# Altium footprint library DANCE_LIB_REV2.PcbLib: 146 footprints (part 2 of 10)
Each footprint in its own frame and in the unit in brackets; x right, y up, seen from the top. Pads: shape width x height; smd on the part's side, far side on the other; paste and mask are expansions set on the pad; w line width, h text height; cw(c..) or ccw(c..) is an arc to the next point about the centre after c.
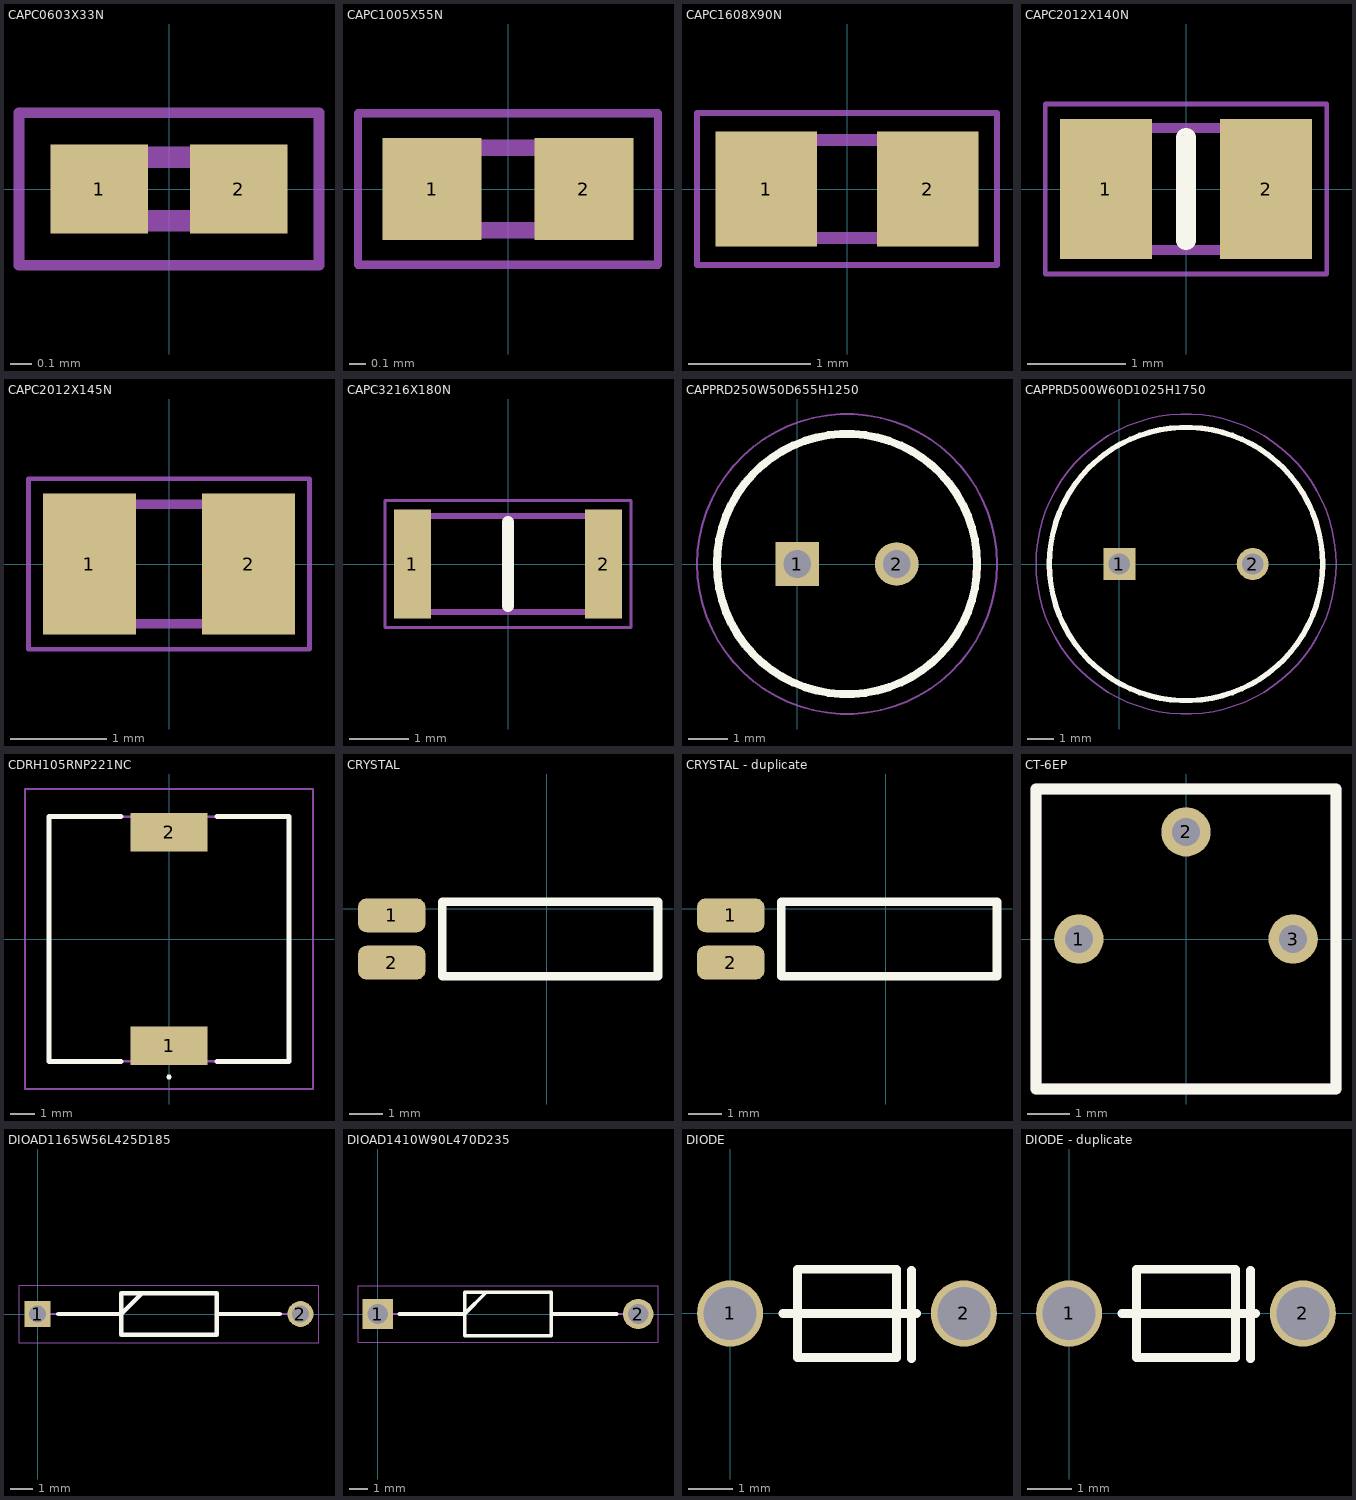
[diagram p1: the footprints below, top view; thin cyan lines are the x and y axes]

## CAPC0603X33N [mm]
pads (2):
  rect 0.46x0.42 smd: 1(-0.33,0) 2(0.33,0)
Mechanical 13:
  lines w0.1: -0.3,-0.15 -0.3,0.15 0.3,0.15 0.3,-0.15 -0.3,-0.15
Mechanical 15:
  lines w0.05: -0.71,-0.36 -0.71,0.36 0.71,0.36 0.71,-0.36 -0.71,-0.36
3D body "GRM033R71E222KA12D.stp": height 0.33, standoff 0, extent -0.3,-0.15 0.3,0.15

## CAPC1005X55N [mm]
pads (2):
  rect 0.6x0.62 smd: 1(-0.46,0) 2(0.46,0)
Mechanical 13:
  lines w0.1: -0.5,-0.25 -0.5,0.25 0.5,0.25 0.5,-0.25 -0.5,-0.25
Mechanical 15:
  lines w0.05: -0.91,-0.46 -0.91,0.46 0.91,0.46 0.91,-0.46 -0.91,-0.46
3D body "CL05B104KA5NNNC.stp": height 0.55, standoff 0, extent -0.5,-0.25 0.5,0.25

## CAPC1608X90N [mm]
pads (2):
  rect 0.83x0.94 smd: 1(-0.66,0) 2(0.66,0)
Mechanical 13:
  lines w0.1: -0.8,-0.4 0.8,-0.4 0.8,0.4 -0.8,0.4 -0.8,-0.4
Mechanical 15:
  lines w0.05: -1.225,-0.62 1.225,-0.62 1.225,0.62 -1.225,0.62 -1.225,-0.62
3D body "CC0603KRX7R7BB104.stp": height 0.8, standoff 0, extent -0.803,-0.399 0.797,0.401

## CAPC2012X140N [mm]
pads (2):
  rect 0.94x1.43 smd: 1(-0.82,0) 2(0.82,0)
Top Overlay:
  lines w0.2: 0,-0.525 0,0.525
Mechanical 13:
  lines w0.1: -1,-0.625 -1,0.625 1,0.625 1,-0.625 -1,-0.625
Mechanical 15:
  lines w0.05: -1.44,-0.87 -1.44,0.87 1.44,0.87 1.44,-0.87 -1.44,-0.87
3D body "CL21A106KOQNNNE.stp": height 1.4, standoff 0, extent -1,-0.625 1,0.625

## CAPC2012X145N [mm]
pads (2):
  rect 0.97x1.47 smd: 1(-0.83,0) 2(0.83,0)
Mechanical 13:
  lines w0.1: -1,-0.625 -1,0.625 1,0.625 1,-0.625 -1,-0.625
Mechanical 15:
  lines w0.05: -1.465,-0.89 -1.465,0.89 1.465,0.89 1.465,-0.89 -1.465,-0.89
3D body "GRM21BR61E106KA73L.stp": height 1.45, standoff 0, extent -1,-0.625 1,0.625

## CAPC3216X180N [mm]
pads (2):
  rect 0.62x1.82 smd: 1(-1.6,0) 2(1.6,0)
Top Overlay:
  lines w0.2: 0,-0.7 0,0.7
Mechanical 13:
  lines w0.1: -1.6,-0.8 -1.6,0.8 1.6,0.8 1.6,-0.8 -1.6,-0.8
Mechanical 15:
  lines w0.05: -2.06,-1.06 -2.06,1.06 2.06,1.06 2.06,-1.06 -2.06,-1.06
3D body "C3216X5R1E225K160AA.stp": height 1.6, standoff 0, extent -1.65,-0.8 1.55,0.8

## CAPPRD250W50D655H1250 [mm]
pads (2):
  rect 1.1x1.1 hole 0.7: 1(0,0)
  round 1.1 hole 0.7: 2(2.5,0)
Top Overlay:
  circle w0.2: c1.25,0 r3.275
Mechanical 13:
  circle w0.1: c1.25,0 r3.275
Mechanical 15:
  circle w0.05: c1.25,0 r3.775
3D body "16ZLH220MEFC6.3X11.stp": height 0, standoff -30, extent -3.16,-3.149 3.15,3.149

## CAPPRD500W60D1025H1750 [mm]
pads (2):
  rect 1.2x1.2 hole 0.8: 1(0,0)
  round 1.2 hole 0.8: 2(5,0)
Top Overlay:
  circle w0.2: c2.5,0 r5.125
Mechanical 13:
  circle w0.1: c2.5,0 r5.125
Mechanical 15:
  circle w0.05: c2.5,0 r5.625
3D body "16YXJ1000MT810X16.stp": height 17.5, standoff -10, extent -2.75,-5.247 7.75,5.247

## CDRH105RNP221NC [mm]
pads (2):
  rect 3.2x1.6 smd: 1(0,-4.45) 2(0,4.45)
Top Overlay:
  lines w0.1: 0,-5.8 cw(c0,-5.75) 0,-5.7 cw(c0,-5.75) 0,-5.8
  lines w0.2: -2,-5.1 -5,-5.1 -5,5.1 -2,5.1 ; 2,-5.1 5,-5.1 5,5.1 2,5.1
Mechanical 13:
  lines w0.1: -5,-5.1 -5,5.1 5,5.1 5,-5.1 -5,-5.1
Mechanical 15:
  lines w0.1: -6,-6.25 -6,6.25 6,6.25 6,-6.25 -6,-6.25
3D body "CDRH105RNP-221NC.stp": height 5.2, standoff 0, extent -5,-5.1 5,5.1

## CRYSTAL [mm]
pads (2):
  rrect50% 2x1 smd: 1(-4.6,-0.2) 2(-4.6,-1.6)
Top Overlay:
  lines w0.254: -3.1,-2 -3.1,0.2 3.3,0.2 3.3,-2 -3.1,-2

## CRYSTAL - duplicate [mm]
pads (2):
  rrect50% 2x1 smd: 1(-4.6,-0.2) 2(-4.6,-1.6)
Top Overlay:
  lines w0.254: -3.1,-2 -3.1,0.2 3.3,0.2 3.3,-2 -3.1,-2

## CT-6EP [mm]
pads (3):
  round 1.15 hole 0.65: 1(-2.5,0) 2(0,2.5) 3(2.5,0)
Top Overlay:
  lines w0.254: -3.5,-3.5 -3.5,3.5 3.5,3.5 3.5,-3.5 -3.5,-3.5
Mechanical 13:
  lines w0.254: -3.5,-3.5 3.5,-3.5 3.5,3.5 -3.5,3.5 -3.5,-3.5
3D body "ct6ep201-nd.stp": height 11.36, standoff -1.44, extent -3.5,-3.5 3.5,3.5

## DIOAD1165W56L425D185 [mm]
pads (2):
  rect 1.15x1.15 hole 0.75: 1(0,0)
  round 1.15 hole 0.75: 2(11.7,0)
Top Overlay:
  lines w0.2: 0.925,0 3.725,0 4.65,0.925 ; 7.975,0 10.775,0 ; 3.725,-0.925 7.975,-0.925 7.975,0.925 3.725,0.925 3.725,-0.925
Mechanical 13:
  lines w0.1: 0,0 3.725,0 4.65,0.925 ; 7.975,0 11.7,0 ; 3.725,-0.925 7.975,-0.925 7.975,0.925 3.725,0.925 3.725,-0.925
Mechanical 15:
  lines w0.05: -0.825,-1.275 12.525,-1.275 12.525,1.275 -0.825,1.275 -0.825,-1.275
3D body "1N4148,133.stp": height 32.04, standoff -28.96, extent 0.963,1.687 2.663,3.388

## DIOAD1410W90L470D235 [mm]
pads (2):
  rect 1.65x1.65 hole 1.1: 1(0,0)
  round 1.65 hole 1.1: 2(14.1,0)
Top Overlay:
  lines w0.2: 1.175,0 4.7,0 5.875,1.175 ; 9.4,0 12.925,0 ; 4.7,-1.175 9.4,-1.175 9.4,1.175 4.7,1.175 4.7,-1.175
Mechanical 13:
  lines w0.1: 0,0 4.7,0 5.875,1.175 ; 9.4,0 14.1,0 ; 4.7,-1.175 9.4,-1.175 9.4,1.175 4.7,1.175 4.7,-1.175
Mechanical 15:
  lines w0.05: -1.075,-1.525 15.175,-1.525 15.175,1.525 -1.075,1.525 -1.075,-1.525
3D body "1N5817.stp": height 2.69, standoff -2.7, extent -0.446,-1.347 14.55,1.347

## DIODE [mm]
pads (2):
  round 1.5 hole 1.2: 1(0,0) 2(5.3,0)
Top Overlay:
  lines w0.2: 1.2,0 3.775,0 ; 1.6,0 4.225,0 ; 4.108,-1.025 4.108,0.975 ; 3.775,0 3.775,1 1.525,1 1.525,-1 3.775,-1 3.775,0

## DIODE - duplicate [mm]
pads (2):
  round 1.5 hole 1.2: 1(0,0) 2(5.3,0)
Top Overlay:
  lines w0.2: 1.2,0 3.775,0 ; 1.6,0 4.225,0 ; 4.108,-1.025 4.108,0.975 ; 3.775,0 3.775,-1 1.525,-1 1.525,1 3.775,1 3.775,0